# EAGLE library part MCP2551 (library custom-parts)
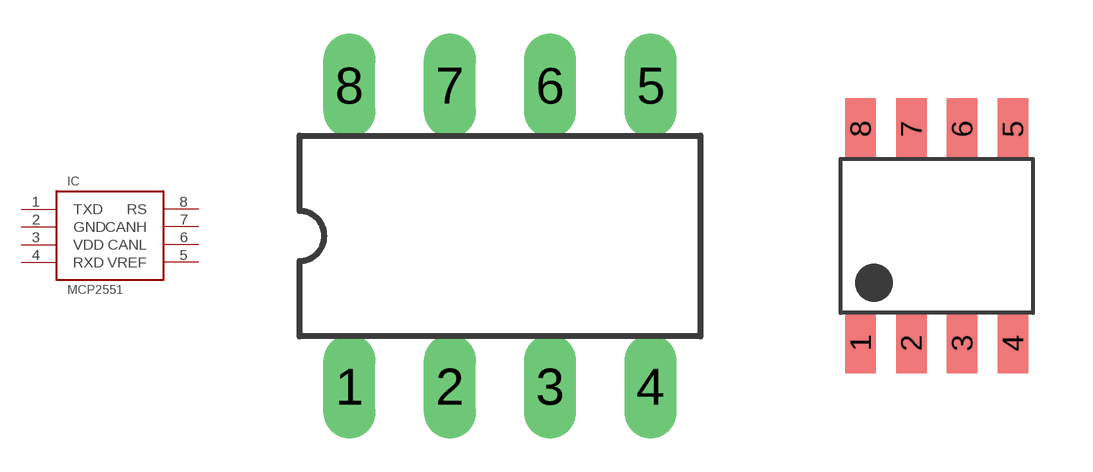
[diagram p2: symbol with the pads of DIL8; footprints DIL8, SOIC-08LG]

Designator prefix IC

## MCP2551DIL8  [DIL8]
1  TXD
2  GND
3  VDD
4  RXD
5  VREF
6  CANL
7  CANH
8  RS

## MCP2551SOIC8  [SOIC-08LG]
Pads as for DIL8

## Footprint DIL8 (pad centres in mm)
Dual In Line package type P
drill 0.813 long: 1 -3.81,-3.81; 2 -1.27,-3.81; 3 1.27,-3.81; 4 3.81,-3.81; 5 3.81,3.81; 6 1.27,3.81; 7 -1.27,3.81; 8 -3.81,3.81

## Footprint SOIC-08LG (pad centres in mm)
8-Lead SOIC (Narrow Body) Package Outline (LG) 4.9x3.9mm body, 1.75mm height (max), 1.27mm pitch Source: www.supertex.com .. led_driver_ics_SG.pdf
smd 0.762 x 1.524: 1 -1.905,-2.675; 2 -0.635,-2.675; 3 0.635,-2.675; 4 1.905,-2.675; 5 1.905,2.675; 6 0.635,2.675; 7 -0.635,2.675; 8 -1.905,2.675